# EAGLE library part MAX16052AUT+T (library max_old)
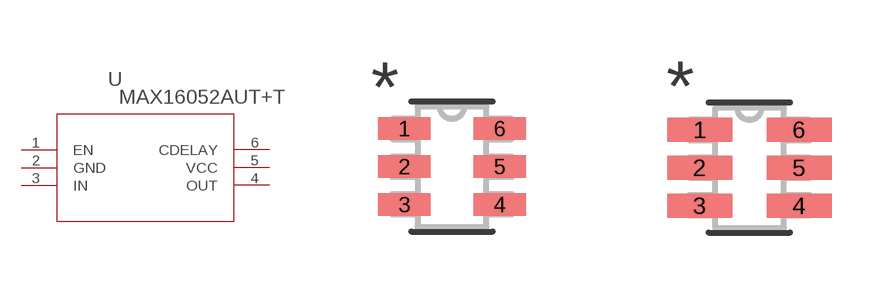
[diagram p0: symbol with the pads of 21-0058I; footprints 21-0058I, 21-0058I-M]

Designator prefix U

## MAX16052AUT+T (MANUFACTURER_PART_NUMBER: max16052aut+t; VENDOR: Maxim Integrated Products)  [21-0058I]
1  EN  in
2  GND  pwr
3  IN  in
4  OUT  out
5  VCC  pwr
6  CDELAY  in

## MAX16052AUT+T21-0058I-M (MANUFACTURER_PART_NUMBER: max16052aut+t; VENDOR: Maxim Integrated Products)  [21-0058I-M]
Pads as for 21-0058I

## MAX16052AUT+T21-0058I-L (MANUFACTURER_PART_NUMBER: max16052aut+t; VENDOR: Maxim Integrated Products)  [21-0058I-L]
Pads as for 21-0058I

## Footprint 21-0058I (pad centres in mm)
smd 1.321 x 0.559: 1 -1.194,0.95; 2 -1.194,0; 3 -1.194,-0.95; 4 1.194,-0.95; 5 1.194,0; 6 1.194,0.95

## Footprint 21-0058I-M (pad centres in mm)
smd 1.626 x 0.61: 1 -1.245,0.95; 2 -1.245,0; 3 -1.245,-0.95; 4 1.245,-0.95; 5 1.245,0; 6 1.245,0.95

## Footprint 21-0058I-L (pad centres in mm)
smd 1.016 x 0.508: 1 -1.143,0.95; 2 -1.143,0; 3 -1.143,-0.95; 4 1.143,-0.95; 5 1.143,0; 6 1.143,0.95